# Altium footprint library Chip Footprints.PcbLib: 30 footprints (part 2 of 2)
Each footprint in its own frame and in the unit in brackets; x right, y up, seen from the top. Pads: shape width x height; smd on the part's side, far side on the other; paste and mask are expansions set on the pad; w line width, h text height; cw(c..) or ccw(c..) is an arc to the next point about the centre after c.
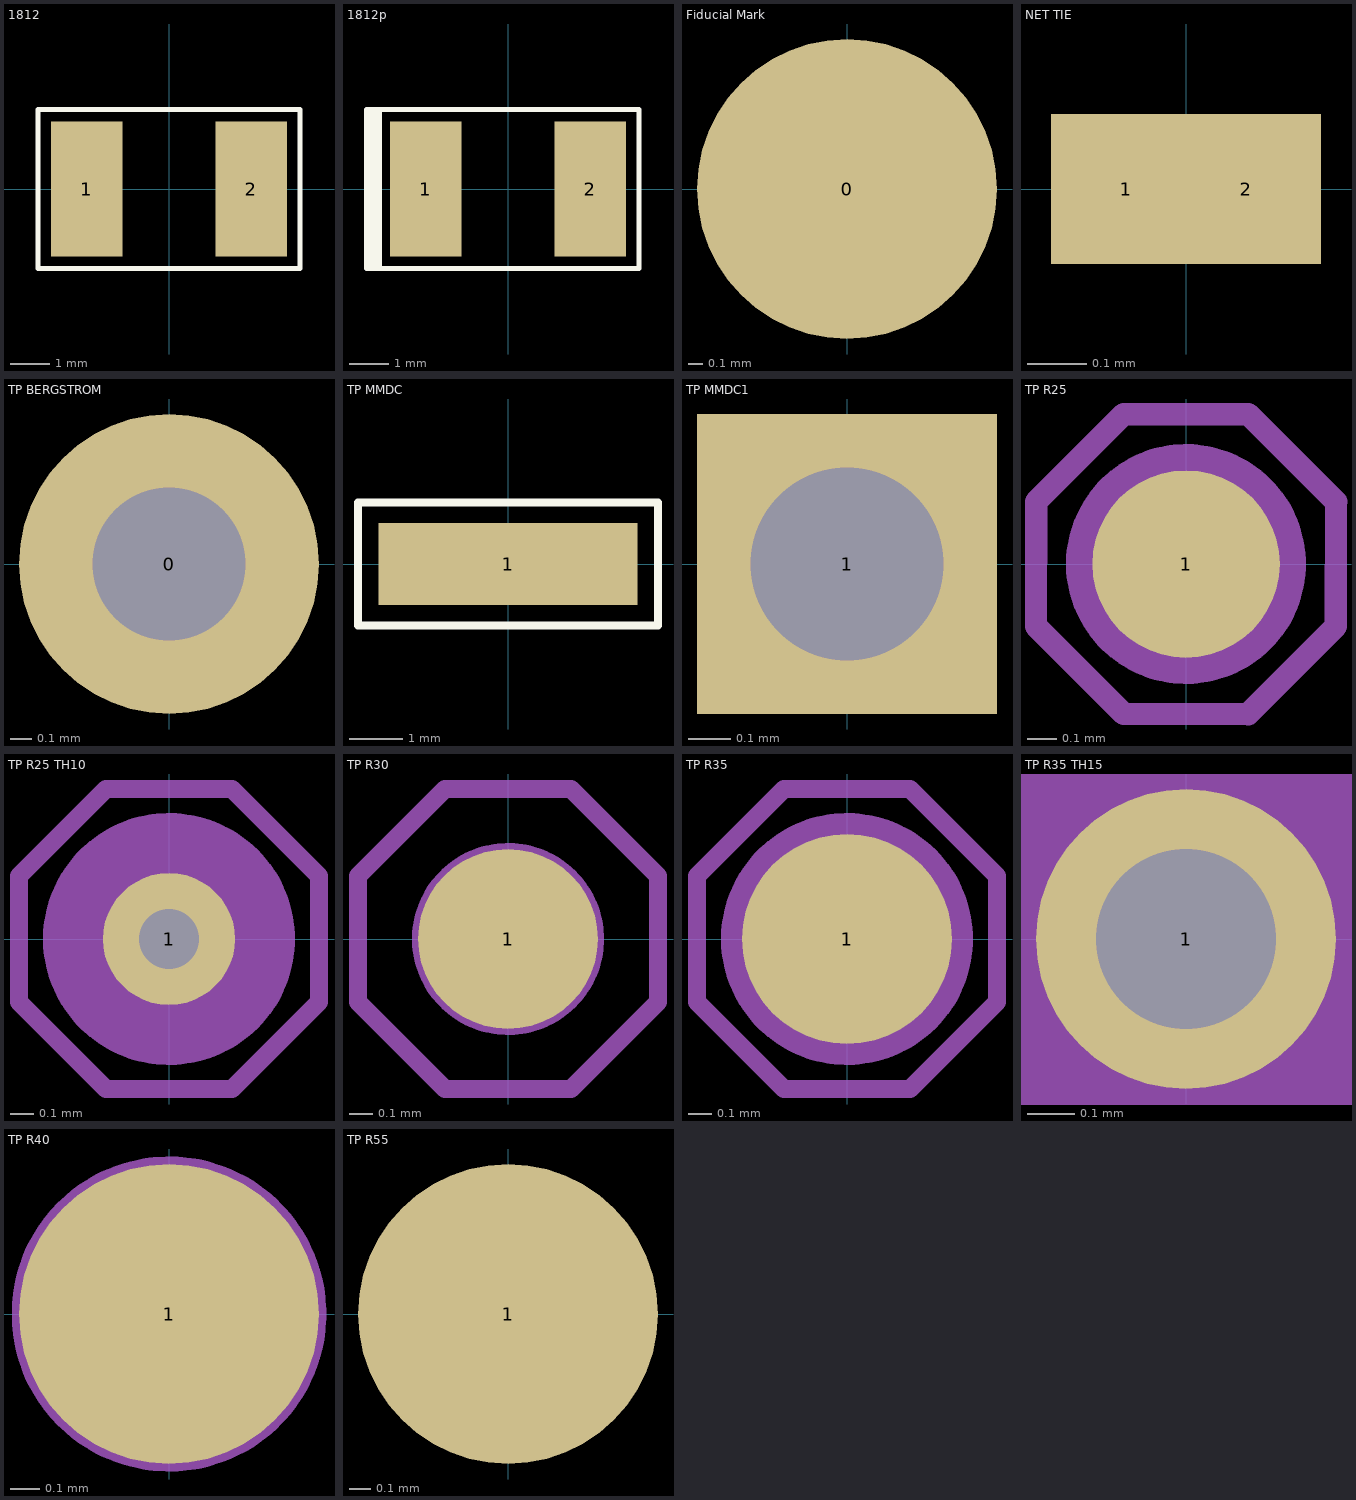
[diagram p1: the footprints below, top view; thin cyan lines are the x and y axes]

## 1812 [mm] "Chip Capacitor; Body 4.5 x 3.2 mm (LxW typ)"
height 1.7
pads (2):
  rect 1.8x3.4 smd: 1(-2.075,0) 2(2.075,0)
Top Overlay:
  lines w0.127: -3.3,-2 -3.3,2 3.3,2 3.3,-2 -3.3,-2
3D body: height 1.2, standoff 0.1, extent -2.2,-1.6 2.2,1.6
3D body: height 1.4, standoff 0, extent 2.2,-1.6 2.8,1.6
3D body: height 0, standoff 0, extent -3.3,-2 3.3,2
3D body: height 1.4, standoff 0, extent -2.8,-1.6 -2.2,1.6

## 1812p [mm] "Chip Capacitor; Body 4.5 x 3.2 mm (LxW typ) polarized"
height 1.7
pads (2):
  rect 1.8x3.4 smd: 1(-2.075,0) 2(2.075,0)
Top Overlay:
  rectangle: -3.556,-2 -3.175,2
  lines w0.127: -3.556,-2 3.3,-2 3.3,2 -3.556,2 -3.556,-2
3D body: height 1.4, standoff 0, extent -2.8,-1.6 -2.2,1.6
3D body: height 0, standoff 0, extent -3.3,-2 3.3,2
3D body: height 1.4, standoff 0, extent 2.2,-1.6 2.8,1.6
3D body: height 1.2, standoff 0.1, extent -2.2,-1.6 2.2,1.6

## Fiducial Mark [mil] "Fiducial Mark"
pads (1):
  round 80 smd mask+18: 0(0,0)

## NET TIE [mil]
pads (2):
  rect 10x10 smd paste-40 mask+0: 1(-4,0) 2(4,0)

## TP BERGSTROM [mil] "Testpoint, Round, 55 mil Surface Pad"
height 0
pads (1):
  round 55 hole 28 mask+5: 0(0,0)
3D body: height 0, standoff 0, extent -27.57,-27.52 27.43,27.46

## TP MMDC [mil]
pads (1):
  rect 190x60 smd paste-200: 1(0,0)
Top Overlay:
  lines w6: -110,-45 110,-45 110,45 -110,45 -110,-45
3D body: height 0, standoff 0, extent -110,-45 110,45

## TP MMDC1 [mil]
pads (1):
  rect 28x28 / inner round 28 / far side round 28 hole 18: 1(0,0)

## TP R25 [mm] "Testpoint, Round, 25 mil Surface Pad"
height 0
pads (1):
  round 0.635 smd paste-0.635: 1(0,0)
Mechanical 4:
  circle w0.406: c0,0 r0.203
Mechanical 10:
  lines w0.076: -0.508,-0.211 -0.211,-0.508 0.211,-0.508 0.508,-0.211 0.508,0.211 0.211,0.508 -0.211,0.508 -0.508,0.211 -0.508,-0.211
3D body: height 0, standoff 0, extent -0.419,-0.419 0.419,0.419

## TP R25 TH10 [mil] "Testpoint, Round, 25 mil pad, 10 mil TH"
height 0
pads (1):
  round 22 / inner round 22 / far side round 25 hole 10: 1(0,0)
Mechanical 4:
  circle w22: c0,0 r10
Mechanical 10:
  lines w3: -25,-10.5 -25,10.5 -10.5,25 10.5,25 25,10.5 25,-10.5 10.5,-25 -10.5,-25 -25,-10.5
3D body: height 0, standoff 0, extent -15.11,-14.99 14.88,15

## TP R30 [mil] "Testpoint, Round, 30 mil Surface Pad"
height 0
pads (1):
  round 30 smd paste-25: 1(0,0)
Mechanical 4:
  circle w16: c0,0 r8
Mechanical 10:
  lines w3: -25,-10.5 -25,10.5 -10.5,25 10.5,25 25,10.5 25,-10.5 10.5,-25 -10.5,-25 -25,-10.5
3D body: height 0, standoff 0, extent -14.94,-14.97 14.94,14.97
3D body: height 0, standoff 0, extent -19.07,-18.99 18.93,19

## TP R35 [mil] "Testpoint, Round, 35 mil Surface Pad"
height 0
pads (1):
  round 35 smd paste-35: 1(0,0)
Mechanical 4:
  circle w22: c0,0 r10
Mechanical 10:
  lines w3: -25,-10.5 -10.5,-25 10.5,-25 25,-10.5 25,10.5 10.5,25 -10.5,25 -25,10.5 -25,-10.5
3D body: height 0, standoff 0, extent -17.45,-17.52 17.45,17.45
3D body: height 0, standoff 0, extent -21.74,-21.69 21.57,21.61

## TP R35 TH15 [mil] "Testpoint, Round, 35 mil pad, 15 mil TH"
height 0
pads (1):
  round 25 / inner round 25 / far side round 35 hole 15 mask+3: 1(0,0)
Mechanical 5:
  circle w20: c0,0 r10
3D body: height 0, standoff 0, extent -17.57,-17.49 17.43,17.5

## TP R40 [mil] "Testpoint, Round, 40 mil Surface Pad"
pads (1):
  round 40 smd paste-35 mask+2: 1(0,0)
Mechanical 4:
  circle w22: c0,0 r10

## TP R55 [mil] "Testpoint, Round, 55 mil Surface Pad"
height 0
pads (1):
  round 55 smd paste-35: 1(0,0)
Mechanical 4:
  circle w30: c0,0 r12
3D body: height 0, standoff 0, extent -21.74,-21.69 21.57,21.61
3D body: height 0, standoff 0, extent -17.59,-17.55 17.45,17.48